# Altium footprint library USB Connectors.PcbLib: 2 footprints
Each footprint in its own frame and in the unit in brackets; x right, y up, seen from the top. Pads: shape width x height; smd on the part's side, far side on the other; paste and mask are expansions set on the pad; w line width, h text height; cw(c..) or ccw(c..) is an arc to the next point about the centre after c.
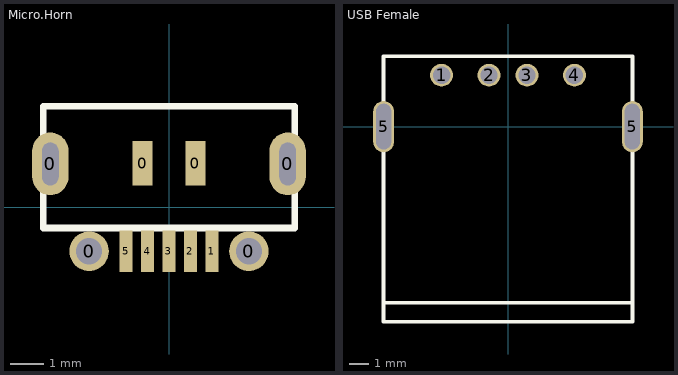
[diagram p0: the footprints below, top view; thin cyan lines are the x and y axes]

## Micro.Horn [mm]
pads (11):
  oval 1.1x1.9 hole 0.5 slot 1.3 at 90 deg: 0(-3.6,1.313) 0(3.6,1.313)
  round 1.2 hole 0.8: 0(-2.425,-1.337) 0(2.425,-1.337)
  rect 0.6x1.35 smd: 0(-0.8,1.338) 0(0.8,1.338)
  rect 0.4x1.25 smd: 1(1.3,-1.337) 2(0.65,-1.337) 3(0,-1.337) 4(-0.65,-1.337) 5(-1.3,-1.337)
Top Overlay:
  lines w0.2: -3.81,-0.635 -3.81,3.063 ; 3.81,-0.635 3.81,3.063
  lines w0.203: -3.81,-0.635 3.81,-0.635 ; -3.81,3.063 3.81,3.063

## USB Female [mm]
pads (6):
  round 1.2 hole 0.92 mask+0.05: 1(-3.5,2.71) 2(-1,2.71) 3(1,2.71) 4(3.5,2.71)
  oval 1.1x2.7 hole 0.8 slot 2.4 at 90 deg mask+0.05: 5(-6.55,0) 5(6.55,0)
Top Overlay:
  lines w0.2: -6.55,-9.28 6.55,-9.28 ; -6.55,-10.28 -6.55,0 -6.55,3.71 6.55,3.71 6.55,0 6.55,-10.28 -6.55,-10.28